# Altium integrated library SAMTEC-TSM-102-01-X-SV.IntLib: 1 symbol
Pins are listed as number, name and electrical type; pins without a type are passive.

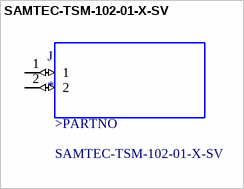
[diagram p0: symbol SAMTEC-TSM-102-01-X-SV]

## SAMTEC-TSM-102-01-X-SV
designator J
Connector Header Surface Mount 2 position 0.100 _2.54mm_; MF: Samtec; MP: TSM-102-01-T-SV; SnapEDA_Link: https://www.snapeda.com/parts/TSM-102-01-T-SV/Samtec%20Inc./view-part/561182/?ref=snap; Value: *; Digi-Key_Part_Number: TSM-102-01-T-SV-002-ND; Digi-Key_Purchase_URL: https://www.digikey.com/product-detail/en/samtec-inc/TSM-102-01-T-SV-002/TSM-102-01-T-SV-002-ND/7623535?utm_source=snapeda&utm_medium=aggregator&utm_campaign=symbol; Package: LQFP-80 Samtec
footprint SAMTEC-TSM-102-01-X-SV
pins: 1 (io), 2 (io)
text: >PARTNO